# Altium schematic symbol library EE209-SMT.SchLib: 10 symbols
Pins are listed as number, name and electrical type; pins without a type are passive.

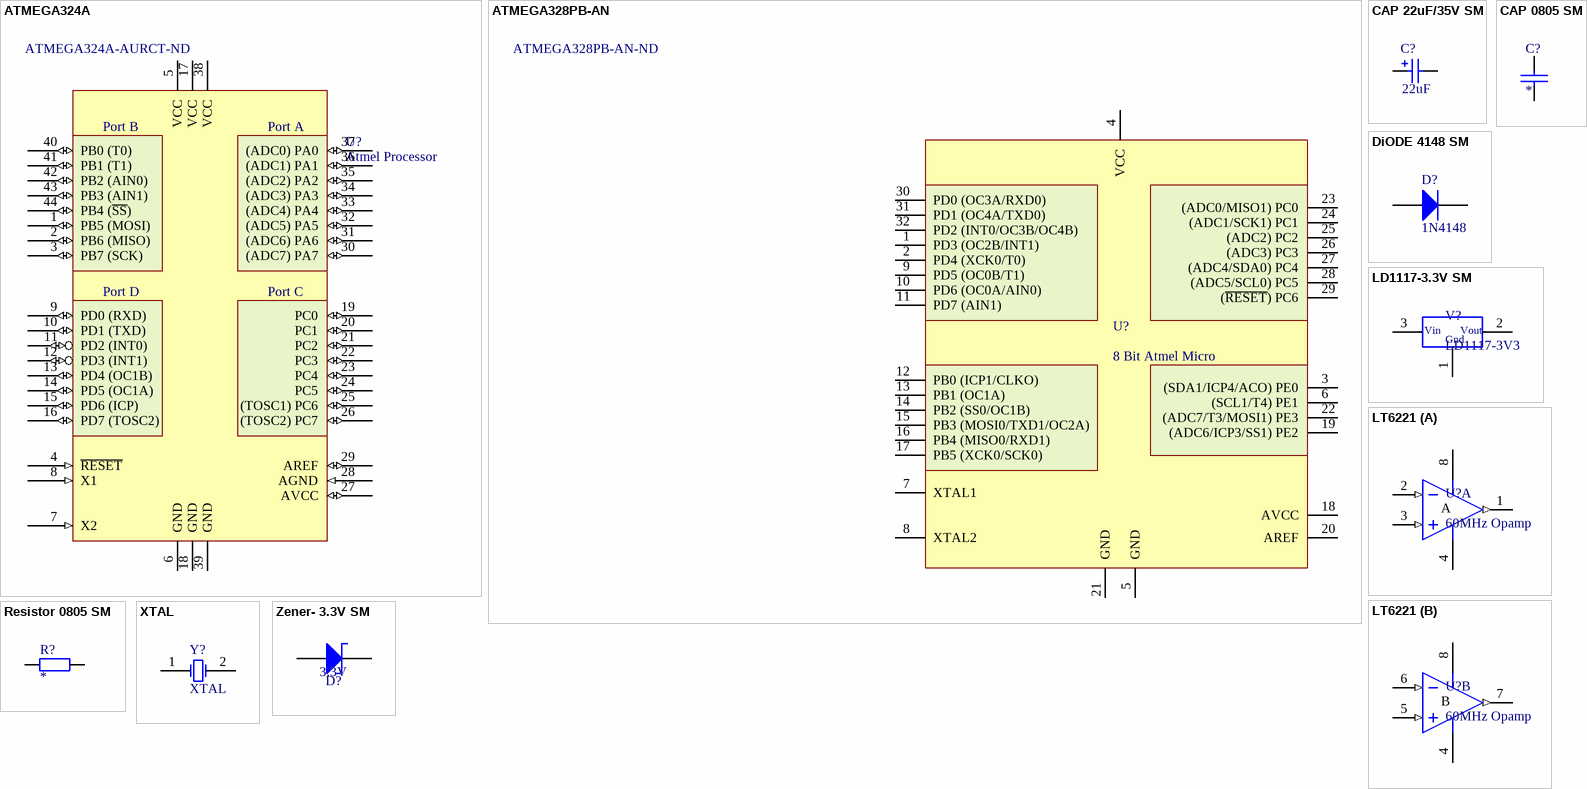
[diagram p0: symbols ATMEGA324A to Zener- 3.3V SM]

## ATMEGA324A
designator U?, comment Atmel Processor  Supplier Part Number 1: ATMEGA324A-AURCT-ND
Manufacturer Part Number: ATMEGA324A-AUR; Core Processor: AVR; Core Size: 8-Bit; Speed: 20MHz; Connectivity: I²C, SPI, UART/USART; Peripherals: Brown-out Detect/Reset, POR, PWM, WDT; Number of I/O: 32; Program Memory Size: 32KB (16K x 16); Program Memory Type: FLASH; EEPROM Size: 1K x 8; RAM Size: 2K x 8; Voltage - Supply (Vcc/Vdd): 1.8 V ~ 5.5 V; Data Converters: A/D 8x10b; Oscillator Type: Internal; Supplier 1: Digi-Key; Manufacturer: Atmel; RoHS: RoHS Compliant; Category: Integrated Circuits (ICs); Stock 1: 2183; Pricing 1: 1=9.94, 10=8.945, 25=8.15, 100=7.3548, 250=6.7584, 500=6.16212 (NZD); Packaging: Cut Tape (CT); Operating Temperature: -40°C ~ 85°C; Package / Case: 44-TQFP; Supplier Device Package: 44-TQFP (10x10); ComponentLink1URL: http://www.atmel.com/Images/Atmel-8272-8-bit-AVR-microcontroller-ATmega164A_PA-324A_PA-644A_PA-1284_P_summary.pdf; ComponentLink1Description: http://www.atmel.com/Images/Atmel-8272-8-bit-AVR-microcontroller-ATmega164A_PA-324A_PA-644A_PA-1284_P_summary.pdf
footprint 44-TQFP
pins: 1 PB5 (MOSI) (io), 2 PB6 (MISO) (io), 3 PB7 (SCK) (io), 4 ~{RESET} (in), 5 VCC, 6 GND, 7 X2 (in), 8 X1 (in), 9 PD0 (RXD) (io), 10 PD1 (TXD) (io), 11 PD2 (INT0) (io), 12 PD3 (INT1) (io), 13 PD4 (OC1B) (io), 14 PD5 (OC1A) (io), 15 PD6 (ICP) (io), 16 PD7 (TOSC2) (io), 17 VCC, 18 GND, 19 PC0 (io), 20 PC1 (io), 21 PC2 (io), 22 PC3 (io), 23 PC4 (io), 24 PC5 (io), 25 (TOSC1) PC6 (io), 26 (TOSC2) PC7 (io), 27 AVCC (io), 28 AGND (in), 29 AREF (io), 30 (ADC7) PA7 (io), 31 (ADC6) PA6 (io), 32 (ADC5) PA5 (io), 33 (ADC4) PA4 (io), 34 (ADC3) PA3 (io), 35 (ADC2) PA2 (io), 36 (ADC1) PA1 (io), 37 (ADC0) PA0 (io), 38 VCC (power), 39 GND (power), 40 PB0 (T0) (io), 41 PB1 (T1) (io), 42 PB2 (AIN0) (io), 43 PB3 (AIN1) (io), 44 PB4 (~{SS}) (io)
text: Port B; Port A; Port D; Port C

## ATMEGA328PB-AN
designator U?, comment 8 Bit Atmel Micro  Supplier Part Number 1: ATMEGA328PB-AN-ND
IC MCU 8BIT 32KB FLASH 32TQFP; Manufacturer Part Number: ATMEGA328PB-AN; Core Processor: AVR; Core Size: 8-Bit; Speed: 20MHz; Connectivity: I²C, SPI, UART/USART; Peripherals: Brown-out Detect/Reset, POR, PWM, WDT; Number of I/O: 27; Program Memory Size: 32KB (16K x 16); EEPROM Size: 1K x 8; RAM Size: 2K x 8; Voltage - Supply (Vcc/Vdd): 1.8 V ~ 5.5 V; Data Converters: A/D 8x10b; Oscillator Type: Internal; Supplier 1: Digi-Key; Manufacturer: Atmel; RoHS: RoHS Compliant; Category: Integrated Circuits (ICs); Stock 1: 366; Pricing 1: 1=2.74, 10=2.448, 25=2.2032, 100=2.0074, 250=1.81152, 500=1.62548, 1000=1.37088 (USD); Packaging: Tray; Part Status: Active; Program Memory Type: FLASH; Operating Temperature: -40°C ~ 105°C (TA); Package / Case: 32-TQFP; Supplier Device Package: 32-TQFP (7x7); ComponentLink1URL: http://www.atmel.com/images/atmel-42397-8-bit-avr-microcontroller-atmega328pb_datasheet.pdf; ComponentLink1Description: http://www.atmel.com/images/atmel-42397-8-bit-avr-microcontroller-atmega328pb_datasheet.pdf
footprint Model Name (Footprint not found)
footprint 32-TQFP
pins: 1 PD3 (OC2B/INT1) , 2 PD4 (XCK0/T0) , 3 (SDA1/ICP4/ACO) PE0, 4 VCC, 5 GND, 6 (SCL1/T4) PE1, 7 XTAL1, 8 XTAL2, 9 PD5 (OC0B/T1) , 10 PD6 (OC0A/AIN0) , 11 PD7 (AIN1) , 12 PB0 (ICP1/CLKO) , 13 PB1 (OC1A) , 14 PB2 (SS0/OC1B) , 15 PB3 (MOSI0/TXD1/OC2A) , 16 PB4 (MISO0/RXD1) , 17 PB5 (XCK0/SCK0), 18 AVCC, 19 (ADC6/ICP3/SS1) PE2, 20 AREF, 21 GND, 22 (ADC7/T3/MOSI1) PE3, 23 (ADC0/MISO1) PC0, 24 (ADC1/SCK1) PC1, 25 (ADC2) PC2, 26 (ADC3) PC3, 27 (ADC4/SDA0) PC4, 28 (ADC5/SCL0) PC5, 29 (~{RESET}) PC6, 30 PD0 (OC3A/RXD0), 31 PD1 (OC4A/TXD0), 32 PD2 (INT0/OC3B/OC4B)

## CAP 22uF/35V SM
designator C?, comment 22uF
Polarized Capacitor (Radial); Revision: July-2002: Re-released for DXP Platform.; Value: 22uF
footprint ECE-CAPAE6.3X5.4SM (Capacitor, polarized, aluminum can; 6.3x5.4mm DxH)
pins: 1, 2

## CAP 0805 SM
designator C?
Capacitor; Value: *
footprint ECE-CAPC2012-0805SM (Chip Capacitor, Body 2.0x1.3mm, IPC Medium Density)
pins: 1, 2

## DiODE 4148 SM
designator D?, comment 1N4148
Diode; Value: 1N4148
footprint ECE-DIO-SOD123SM (SOD-123; 2 Leads; Body 2.7 x 1.6 mm, (LxW))
pins: 1 A, 2 K

## LD1117-3.3V SM
designator V?, comment LD1117-3V3
LDO Voltage Regulator; Value: LD1117-3V3
footprint ECE-SOT223SM (Transistor SOT223 Body 6.7X3.7X1.8)
pins: 1 Gnd, 2 Vout, 3 Vin

## LT6221
designator U?, comment 60MHz Opamp
footprint SO-8
part A pins: 1 OUT (out), 2 IN- (in), 3 IN+ (in), 4 V- (power), 8 V+ (power)
part B pins: 4 V- (power), 5 IN+ (in), 6 IN- (in), 7 OUT (out), 8 V+ (power)
part A text: A
part B text: B

## Resistor 0805 SM
designator R?
Resistor; Value: *
footprint ECE-RESC2012-0805SM (Chip Resistor, Body 2.0x1.2mm, IPC Medium Density)
pins: 1, 2

## XTAL
designator Y?
Crystal Oscillator; Published: 8-Jun-2000; LatestRevisionDate: 17-Jul-2002; LatestRevisionNote: Re-released for DXP Platform.; PackageReference: R38; Publisher: Altium Limited; PackageDescription: Crystal, Thru-Hole; 2 Leads; Body 3.1 x 8.2 mm (Dia.xH)
footprint HC49-US (20Mhz Crystal)
pins: 1 OSC1, 2 OSC2

## Zener- 3.3V SM
designator D?, comment 3.3V
Zener Diode; Value: 3.3V
footprint ECE-DIO-SOD123SM (SOD-123; 2 Leads; Body 2.7 x 1.6 mm, (LxW))
pins: 1 A, 2 K